# Altium integrated library My_Library_Linear_Regulator.IntLib: 4 symbols
Pins are listed as number, name and electrical type; pins without a type are passive.

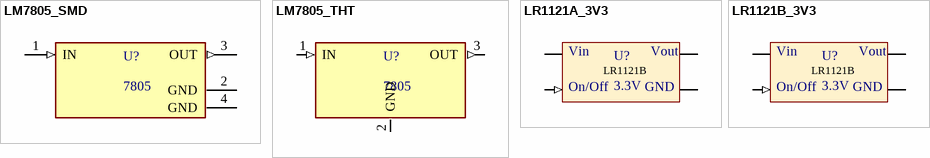
[diagram p0: symbols LM7805_SMD to LR1121B_3V3]

## LM7805_SMD
designator U?, comment 7805
1.5-A, 30-V, linear voltage regulator 3-DDPAK/TO-263 0 to 125; MP: LM7805S/NOPB; MF: Texas Instruments; Value: *; SnapEDA_Link: https://www.snapeda.com/parts/LM7805S/NOPB/Texas%20Instruments/view-part/546227/?ref=snap; Price: None; Package: TO-263-3 Texas Instruments; DigiKey-Purchase-URL: https://snapeda.com/shop?store=DigiKey&id=546227; Texas_Instruments-Purchase-URL: https://snapeda.com/shop?store=Texas+Instruments&id=546227; Availability: Warning
footprint TO254P1524X483-4N
pins: 1 IN (in), 2 GND (power), 3 OUT (out), 4 GND (power)

## LM7805_THT
designator U?, comment 7805
1.5-A, 30-V, linear voltage regulator 3-DDPAK/TO-263 0 to 125; MP: LM7805S/NOPB; MF: Texas Instruments; Value: *; SnapEDA_Link: https://www.snapeda.com/parts/LM7805S/NOPB/Texas%20Instruments/view-part/546227/?ref=snap; Price: None; Package: TO-263-3 Texas Instruments; DigiKey-Purchase-URL: https://snapeda.com/shop?store=DigiKey&id=546227; Texas_Instruments-Purchase-URL: https://snapeda.com/shop?store=Texas+Instruments&id=546227; Availability: Warning
footprint TO-220F-VERTICAL
pins: 1 IN (in), 2 GND (power), 3 OUT (out)

## LR1121A_3V3
designator U?, comment 3.3V
200mA 7V LDO; Value: 3.3V
footprint SOT25_LR2111 (SOT23, 5-Leads, Body 3.00x2.80mm, Pitch 0.95mm, IPC Medium Density)
pins: 1 Vin (power), 2 Vss, 3 ON/OFF (in), 5 Vout (power)
text: LR1121B; On/Off; GND

## LR1121B_3V3
designator U?, comment 3.3V
200mA 7V LDO; Value: 3.3V
footprint SOT25_LR2111 (SOT23, 5-Leads, Body 3.00x2.80mm, Pitch 0.95mm, IPC Medium Density)
pins: 1 Vout (power), 2 Vss, 3 Vin (power), 4 ON/OFF (in)
text: LR1121B; On/Off; GND